# Altium schematic symbol library RLC.SchLib: 5 symbols
Pins are listed as number, name and electrical type; pins without a type are passive.

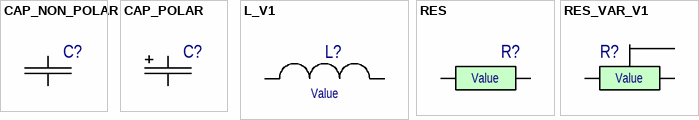
[diagram p0: symbols CAP_NON_POLAR to RES_VAR_V1]

## CAP_NON_POLAR
designator C?
pins: 1, 2

## CAP_POLAR
designator C?
pins: M, P

## L_V1
designator L?
Value: Value
pins: 1, 2

## RES
designator R?
Value: Value
pins: 1, 2

## RES_VAR_V1
designator R?
Value: Value
pins: 1, 3, 3